# Altium footprint library PCB - POWER - IM828XCC.PCBLIB: 1 footprints
Each footprint in its own frame and in the unit in brackets; x right, y up, seen from the top. Pads: shape width x height; smd on the part's side, far side on the other; paste and mask are expansions set on the pad; w line width, h text height; cw(c..) or ccw(c..) is an arc to the next point about the centre after c.
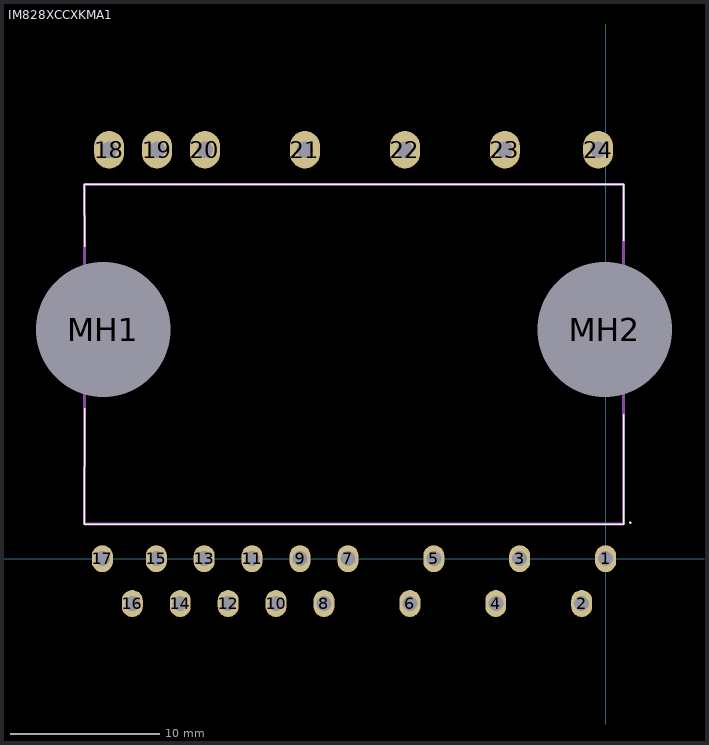
[diagram p0: the footprint, top view; thin cyan lines are the x and y axes]

## IM828XCCXKMA1 [mm]
pads (26):
  oval 1.4x1.8 hole 1: 1(0,0) 2(-1.6,-2.997) 3(-5.737,0) 4(-7.337,-2.997) 5(-11.473,0) 6(-13.073,-2.997) 7(-17.21,0) 8(-18.81,-2.997) 9(-20.41,0) 10(-22.01,-2.997) 11(-23.61,0) 12(-25.21,-2.997) 13(-26.81,0) 14(-28.41,-2.997) 15(-30.01,0) 16(-31.61,-2.997) 17(-33.61,0)
  oval 2x2.5 hole 1.1: 18(-33.16,27.315) 19(-29.96,27.315) 20(-26.76,27.315) 21(-20.083,27.315) 22(-13.405,27.315) 23(-6.728,27.315) 24(-0.5,27.315)
  round 5.1 hole 9 unplated: MH1(-33.555,15.3) MH2(-0.055,15.3)
Top Overlay:
  circle w0.1: c1.651,2.413 r0.033
  lines w0.1: 1.196,9.658 1.195,9.658 1.195,2.3 ; -34.805,2.3 -34.798,10.033 -34.805,2.3 ; -34.805,2.3 1.195,2.3 ; -34.805,2.3 1.195,2.3 ; -34.805,25 -34.798,20.828 -34.805,25 ; -34.805,25 1.195,25 ; -34.805,25 1.195,25 ; 1.195,25 1.2,21.223 1.195,25
Top Assembly:
  lines w0.2: -34.805,2.3 -34.805,25 1.195,25 1.195,2.3 -34.805,2.3
3D body "Infineon-CIPOS_Maxi_3D_Model-PCBDesignData-v01_00-EN.stp": height 5.08, standoff -4.64, extent -34.626,-3.308 1.414,27.514